# Altium footprint library Flex_SOT23-6.PcbLib: 1 footprints
Each footprint in its own frame and in the unit in brackets; x right, y up, seen from the top. Pads: shape width x height; smd on the part's side, far side on the other; paste and mask are expansions set on the pad; w line width, h text height; cw(c..) or ccw(c..) is an arc to the next point about the centre after c.
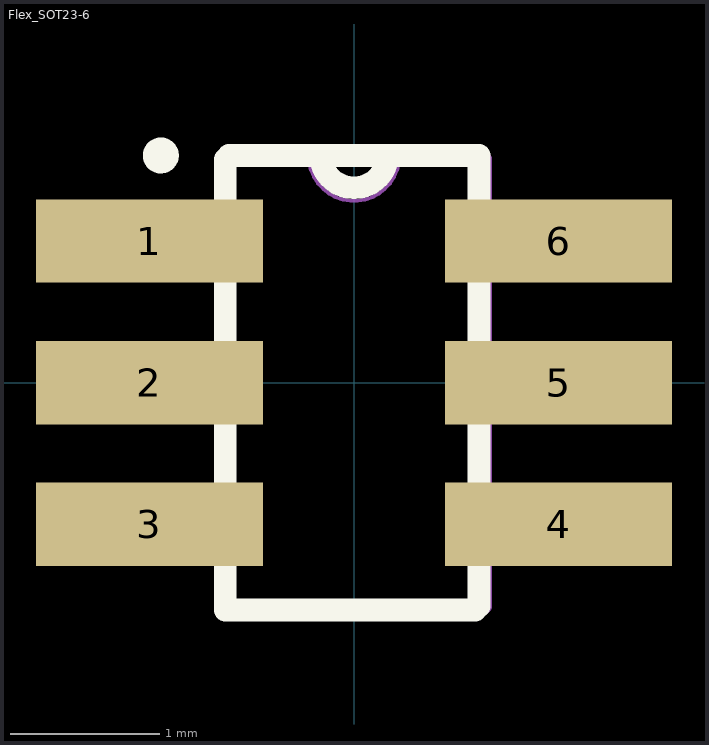
[diagram p0: the footprint, top view; thin cyan lines are the x and y axes]

## Flex_SOT23-6 [mil]
height 57
pads (6):
  rect 60x22 smd: 1(-54,37.4) 2(-54,0) 3(-54,-37.4) 4(54,-37.4) 5(54,0) 6(54,37.4)
Top Overlay:
  circle w5: c-51,60 r2.24
  lines w6: -34,59 -34,-60 32,-60 ; -33,60 33,60 33,-59 ; -8.92,60 ccw(c0,60.4) 8.92,60
Top Solder:
  region: 37,-52 36.2,-52 34.73,-51.39 33.61,-50.27 33,-48.8 33,-48 33,48 33,48.8 33.61,50.27 34.73,51.39 36.2,52 37,52 71,52 71.8,52 73.27,51.39 74.39,50.27 75,48.8 75,48 75,-48 75,-48.8 74.39,-50.27 73.27,-51.39 71.8,-52 71,-52
  region: -71,-52 -71.8,-52 -73.27,-51.39 -74.39,-50.27 -75,-48.8 -75,-48 -75,48 -75,48.8 -74.39,50.27 -73.27,51.39 -71.8,52 -71,52 -37,52 -36.2,52 -34.73,51.39 -33.61,50.27 -33,48.8 -33,48 -33,-48 -33,-48.8 -33.61,-50.27 -34.73,-51.39 -36.2,-52 -37,-52
Mechanical 1:
  lines w1: -12,60 ccw(c0,60) 12,60 ; -59,-47.4 -34.5,-47.4 -34.5,-27.4 -59,-27.4 -59,-47.4 ; -59,-10 -34.5,-10 -34.5,10 -59,10 -59,-10 ; -59,27.4 -34.5,27.4 -34.5,47.4 -59,47.4 -59,27.4 ; -34.5,-60 -34.5,60 34.5,60 34.5,-60 -34.5,-60 ; 34.5,-47.4 59,-47.4 59,-27.4 34.5,-27.4 34.5,-47.4 ; 34.5,-10 59,-10 59,10 34.5,10 34.5,-10 ; 34.5,27.4 59,27.4 59,47.4 34.5,47.4 34.5,27.4
Mechanical 13:
  lines w3.94: -34.45,-59.05 -34.45,59.06 34.45,59.06 34.45,-59.05 -34.45,-59.05
3D body: height 57.09, standoff 0, extent -34.45,-59.05 34.45,59.06